# EAGLE library part CONVERSOR_ARDUINO (library ecar)
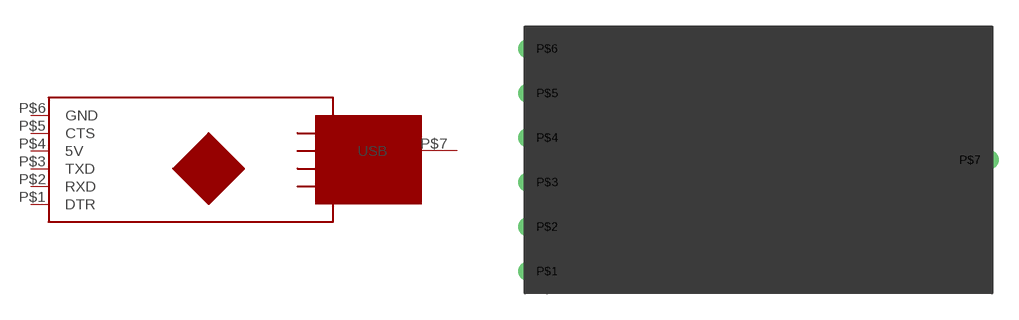
[diagram p13: symbol with the pads of CONVERSOR_ARDUINO; footprint CONVERSOR_ARDUINO]

Designator prefix -

## CONVERSOR_ARDUINO  [CONVERSOR_ARDUINO]
P$1  DTR
P$2  RXD
P$3  TXD
P$4  5V
P$5  CTS
P$6  GND
P$7  USB

## Footprint CONVERSOR_ARDUINO (pad centres in mm)
drill 0.6 offset: P$1 0,1.27; P$2 0,3.81; P$3 0,6.35; P$4 0,8.89; P$5 0,11.43; P$6 0,13.97; P$7 24.13,7.62